# Altium footprint library PcbLib1.PcbLib: 1 footprints
Each footprint in its own frame and in the unit in brackets; x right, y up, seen from the top. Pads: shape width x height; smd on the part's side, far side on the other; paste and mask are expansions set on the pad; w line width, h text height; cw(c..) or ccw(c..) is an arc to the next point about the centre after c.

## PCBComponent_1 [mm]
via 15.24,-40.64 diameter 1 hole 0.7
via 15.24,-43.18 diameter 1 hole 0.7
via 15.24,-48.26 diameter 1 hole 0.7
via 15.24,-45.72 diameter 1 hole 0.7
via 15.24,-20.32 diameter 1 hole 0.7
via 15.24,-22.86 diameter 1 hole 0.7
via 15.24,-27.94 diameter 1 hole 0.7
via 15.24,-25.4 diameter 1 hole 0.7
via 15.24,-35.56 diameter 1 hole 0.7
via 15.24,-38.1 diameter 1 hole 0.7
via 15.24,-33.02 diameter 1 hole 0.7
via 15.24,-30.48 diameter 1 hole 0.7
via 15.24,-10.16 diameter 1 hole 0.7
via 15.24,-12.7 diameter 1 hole 0.7
via 15.24,-17.78 diameter 1 hole 0.7
via 15.24,-15.24 diameter 1 hole 0.7
via 15.24,-5.08 diameter 1 hole 0.7
via 15.24,-7.62 diameter 1 hole 0.7
via 15.24,-2.54 diameter 1 hole 0.7
via 15.24,0 diameter 1 hole 0.7
via 0,0 diameter 1 hole 0.7
via 0,-2.54 diameter 1 hole 0.7
via 0,-7.62 diameter 1 hole 0.7
via 0,-5.08 diameter 1 hole 0.7
via 0,-15.24 diameter 1 hole 0.7
via 0,-17.78 diameter 1 hole 0.7
via 0,-12.7 diameter 1 hole 0.7
via 0,-10.16 diameter 1 hole 0.7
via 0,-30.48 diameter 1 hole 0.7
via 0,-33.02 diameter 1 hole 0.7
via 0,-38.1 diameter 1 hole 0.7
via 0,-35.56 diameter 1 hole 0.7
via 0,-25.4 diameter 1 hole 0.7
via 0,-27.94 diameter 1 hole 0.7
via 0,-22.86 diameter 1 hole 0.7
via 0,-20.32 diameter 1 hole 0.7
via 0,-45.72 diameter 1 hole 0.7
via 0,-48.26 diameter 1 hole 0.7
via 0,-43.18 diameter 1 hole 0.7
via 0,-40.64 diameter 1 hole 0.7
3D body: height 4.83, standoff 0.38, extent -0.635,-48.895 15.875,0.635